# Altium schematic symbol library GENERIC_N_MOSFET_DGS.Schlib: 1 symbol
Pins are listed as number, name and electrical type; pins without a type are passive.

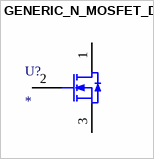
[diagram p0: symbol GENERIC_N_MOSFET_DGS]

## GENERIC_N_MOSFET_DGS
designator U?
pins: 1 D, 2 G, 3 S